# EAGLE library part 52207-1885 (library Molex_By_element14_Batch_1)
SOCKET FPC, SMT, 1MM, 18 WAY
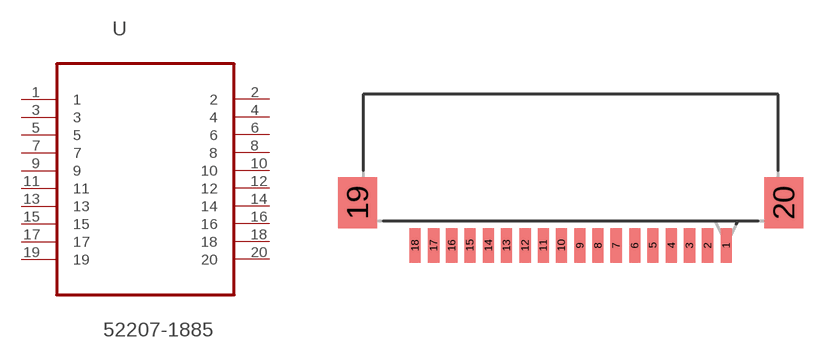
[diagram p5: symbol with the pads of MOLEX_52207-1885; footprint MOLEX_52207-1885]

Designator prefix U

## 52207-1885 (MPN: 52207-1885; OC_FARNELL: 1079942; OC_NEWARK: 58J9510; PACKAGE: SOCKET FPC, SMT, 1MM, 18 WAY; SUPPLIER: Molex)  [MOLEX_52207-1885]
1  1  pas
2  2  pas
3  3  pas
4  4  pas
5  5  pas
6  6  pas
7  7  pas
8  8  pas
9  9  pas
10  10  pas
11  11  pas
12  12  pas
13  13  pas
14  14  pas
15  15  pas
16  16  pas
17  17  pas
18  18  pas
19  19  pas
20  20  pas

## Footprint MOLEX_52207-1885 (pad centres in mm)
smd 0.61 x 1.905: 1 8.509,4.801; 2 7.493,4.801; 3 6.502,4.801; 4 5.512,4.801; 5 4.496,4.801; 6 3.505,4.801; 7 2.489,4.801; 8 1.499,4.801; 9 0.508,4.801; 10 -0.508,4.801; 11 -1.499,4.801; 12 -2.489,4.801; 13 -3.505,4.801; 14 -4.496,4.801; 15 -5.512,4.801; 16 -6.502,4.801; 17 -7.493,4.801; 18 -8.509,4.801
smd 2.108 x 2.794: 19 -11.659,7.137; 20 11.659,7.137